# Altium footprint library CAP_10uF_SMD.PcbLib: 1 footprints
Each footprint in its own frame and in the unit in brackets; x right, y up, seen from the top. Pads: shape width x height; smd on the part's side, far side on the other; paste and mask are expansions set on the pad; w line width, h text height; cw(c..) or ccw(c..) is an arc to the next point about the centre after c.
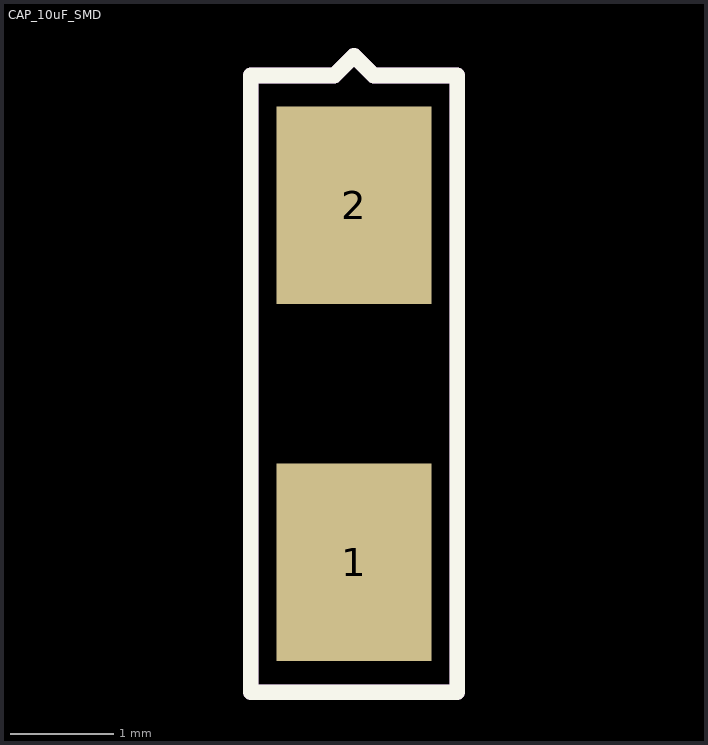
[diagram p0: the footprint, top view; thin cyan lines are the x and y axes]

## CAP_10uF_SMD [mm]
pads (2):
  rect 1.499x1.91 smd: 1(10.485,1.821) 2(10.485,5.276)
Top Overlay:
  lines w0.152: 9.486,0.564 11.484,0.564 11.484,6.533 10.676,6.533 10.485,6.723 10.295,6.533 9.486,6.533 9.486,0.564
Mechanical 1:
  lines w0.152: 9.486,0.564 11.484,0.564 11.484,6.533 10.676,6.533 10.485,6.723 10.295,6.533 9.486,6.533 9.486,0.564